# Altium schematic symbol library SC16IS750IBS.SchLib: 1 symbol
Pins are listed as number, name and electrical type; pins without a type are passive.

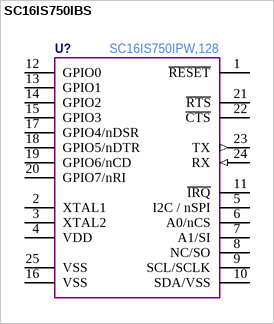
[diagram p0: symbol SC16IS750IBS]

## SC16IS750IBS
designator U?  Manufacturer Part Number: SC16IS750IPW,128  (hidden comment: *)
pins: 1 ~{RESET}, 2 XTAL1, 3 XTAL2, 4 VDD, 5 I2C / nSPI, 6 A0/nCS, 7 A1/SI, 8 NC/SO, 9 SCL/SCLK, 10 SDA/VSS, 11 ~{IRQ}, 12 GPIO0, 13 GPIO1, 14 GPIO2, 15 GPIO3, 16 VSS, 17 GPIO4/nDSR, 18 GPIO5/nDTR, 19 GPIO6/nCD, 20 GPIO7/nRI, 21 ~{RTS}, 22 ~{CTS}, 23 TX (out), 24 RX (in), 25 VSS